# Altium schematic symbol library STM32F405RGT6.SchLib: 2 symbols
Pins are listed as number, name and electrical type; pins without a type are passive.

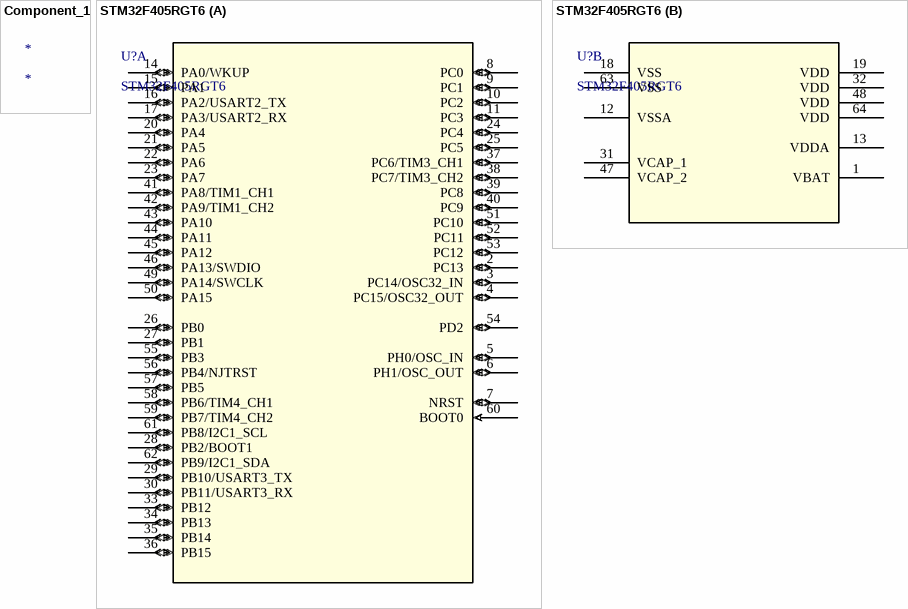
[diagram p0: symbols Component_1 to STM32F405RGT6]

## Component_1
designator *

## STM32F405RGT6
designator U?
No Description Available; Vendor: STMicroelectronics; Built_By: EMA_UL_Team; SourceLibrary: Updates_to_database_2020-10-19; Manufacturer_Part_Number: STM32F405RGT6; Copyright: Copyright (C) 2018 Accelerated Designs. All rights reserved; RefDes: RefDes; Type: DEV
footprint LQFP64-10x10mm
part A pins: 2 PC13 (io), 3 PC14/OSC32_IN (io), 4 PC15/OSC32_OUT (io), 5 PH0/OSC_IN (io), 6 PH1/OSC_OUT (io), 7 NRST (io), 8 PC0 (io), 9 PC1 (io), 10 PC2 (io), 11 PC3 (io), 14 PA0/WKUP (io), 15 PA1 (io), 16 PA2/USART2_TX (io), 17 PA3/USART2_RX (io), 20 PA4 (io), 21 PA5 (io), 22 PA6 (io), 23 PA7 (io), 24 PC4 (io), 25 PC5 (io), 26 PB0 (io), 27 PB1 (io), 28 PB2/BOOT1 (io), 29 PB10/USART3_TX (io), 30 PB11/USART3_RX (io), 33 PB12 (io), 34 PB13 (io), 35 PB14 (io), 36 PB15 (io), 37 PC6/TIM3_CH1 (io), 38 PC7/TIM3_CH2 (io), 39 PC8 (io), 40 PC9 (io), 41 PA8/TIM1_CH1 (io), 42 PA9/TIM1_CH2 (io), 43 PA10 (io), 44 PA11 (io), 45 PA12 (io), 46 PA13/SWDIO (io), 49 PA14/SWCLK (io), 50 PA15 (io), 51 PC10 (io), 52 PC11 (io), 53 PC12 (io), 54 PD2 (io), 55 PB3 (io), 56 PB4/NJTRST (io), 57 PB5 (io), 58 PB6/TIM4_CH1 (io), 59 PB7/TIM4_CH2 (io), 60 BOOT0 (in), 61 PB8/I2C1_SCL (io), 62 PB9/I2C1_SDA (io)
part B pins: 1 VBAT (power), 12 VSSA (power), 13 VDDA (power), 18 VSS (power), 19 VDD (power), 31 VCAP_1 (power), 32 VDD (power), 47 VCAP_2 (power), 48 VDD (power), 63 VSS (power), 64 VDD (power)